# Altium schematic symbol library MK66FX1M0VLQ18.SchLib: 1 symbol
Pins are listed as number, name and electrical type; pins without a type are passive.

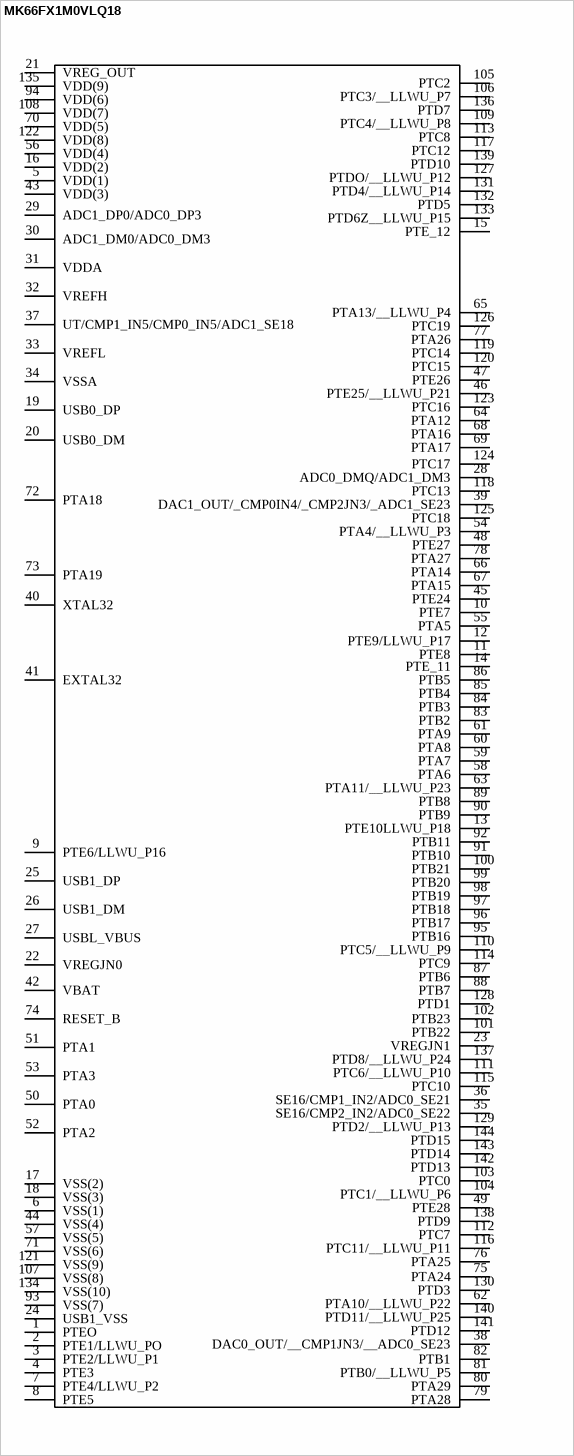
[diagram p0: symbol MK66FX1M0VLQ18]

## MK66FX1M0VLQ18
designator B?
NXP - MK66FX1M0VLQ18 - MPU, ARM CORTEX-M4F, 180MHZ, LQFP-144; Manufacturer_Name: Nexperia; Geometry.Height: 1.6mm; Supplier_Name: RS; RS Part Number: *; Manufacturer_Part_Number: MK66FX1M0VLQ18; Allied_Number: *; Other Part Number: *; Datasheet Link: https://cache.nxp.com/docs/en/data-sheet/K66P144M180SF5V2.pdf; 3D Package: *
footprint QFP50P2200X2200X160-144N
pins: 1 PTEO, 2 PTE1/LLWU_PO, 3 PTE2/LLWU_P1, 4 PTE3, 5 VDD(1), 6 VSS(1), 7 PTE4/LLWU_P2, 8 PTE5, 9 PTE6/LLWU_P16, 10 PTE7, 11 PTE8, 12 PTE9/LLWU_P17, 13 PTE10LLWU_P18, 14 PTE_11, 15 PTE_12, 16 VDD(2), 17 VSS(2), 18 VSS(3), 19 USB0_DP, 20 USB0_DM, 21 VREG_OUT, 22 VREGJN0, 23 VREGJN1, 24 USB1_VSS, 25 USB1_DP, 26 USB1_DM, 27 USBL_VBUS, 28 ADC0_DMQ/ADC1_DM3, 29 ADC1_DP0/ADC0_DP3, 30 ADC1_DM0/ADC0_DM3, 31 VDDA, 32 VREFH, 33 VREFL, 34 VSSA, 35 SE16/CMP2_IN2/ADC0_SE22, 36 SE16/CMP1_IN2/ADC0_SE21, 37 UT/CMP1_IN5/CMP0_IN5/ADC1_SE18, 38 DAC0_OUT/__CMP1JN3/__ADC0_SE23, 39 DAC1_OUT/_CMP0IN4/_CMP2JN3/_ADC1_SE23, 40 XTAL32, 41 EXTAL32, 42 VBAT, 43 VDD(3), 44 VSS(4), 45 PTE24, 46 PTE25/__LLWU_P21, 47 PTE26, 48 PTE27, 49 PTE28, 50 PTA0, 51 PTA1, 52 PTA2, 53 PTA3, 54 PTA4/__LLWU_P3, 55 PTA5, 56 VDD(4), 57 VSS(5), 58 PTA6, 59 PTA7, 60 PTA8, 61 PTA9, 62 PTA10/__LLWU_P22, 63 PTA11/__LLWU_P23, 64 PTA12, 65 PTA13/__LLWU_P4, 66 PTA14, 67 PTA15, 68 PTA16, 69 PTA17, 70 VDD(5), 71 VSS(6), 72 PTA18, 73 PTA19, 74 RESET_B, 75 PTA24, 76 PTA25, 77 PTA26, 78 PTA27, 79 PTA28, 80 PTA29, 81 PTB0/__LLWU_P5, 82 PTB1, 83 PTB2, 84 PTB3, 85 PTB4, 86 PTB5, 87 PTB6, 88 PTB7, 89 PTB8, 90 PTB9, 91 PTB10, 92 PTB11, 93 VSS(7), 94 VDD(6), 95 PTB16, 96 PTB17, 97 PTB18, 98 PTB19, 99 PTB20, 100 PTB21, 101 PTB22, 102 PTB23, 103 PTC0, 104 PTC1/__LLWU_P6, 105 PTC2, 106 PTC3/__LLWU_P7, 107 VSS(8), 108 VDD(7), 109 PTC4/__LLWU_P8, 110 PTC5/__LLWU_P9, 111 PTC6/__LLWU_P10, 112 PTC7, 113 PTC8, 114 PTC9, 115 PTC10, 116 PTC11/__LLWU_P11, 117 PTC12, 118 PTC13, 119 PTC14, 120 PTC15, 121 VSS(9), 122 VDD(8), 123 PTC16, 124 PTC17, 125 PTC18, 126 PTC19, 127 PTDO/__LLWU_P12, 128 PTD1, 129 PTD2/__LLWU_P13, 130 PTD3, 131 PTD4/__LLWU_P14, 132 PTD5, 133 PTD6Z__LLWU_P15, 134 VSS(10), 135 VDD(9), 136 PTD7, 137 PTD8/__LLWU_P24, 138 PTD9, 139 PTD10, 140 PTD11/__LLWU_P25, 141 PTD12, 142 PTD13, 143 PTD14, 144 PTD15